# Altium schematic symbol library Schlib1.SchLib: 1 symbol
Pins are listed as number, name and electrical type; pins without a type are passive.

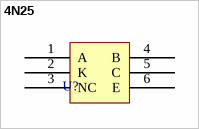
[diagram p0: symbol 4N25]

## 4N25
designator U?  (value not drawn)
footprint 4N25
pins: 1 A, 2 K, 3 NC, 4 B, 5 C, 6 E